# EAGLE library part OPA2227UA (library OPAX22X)
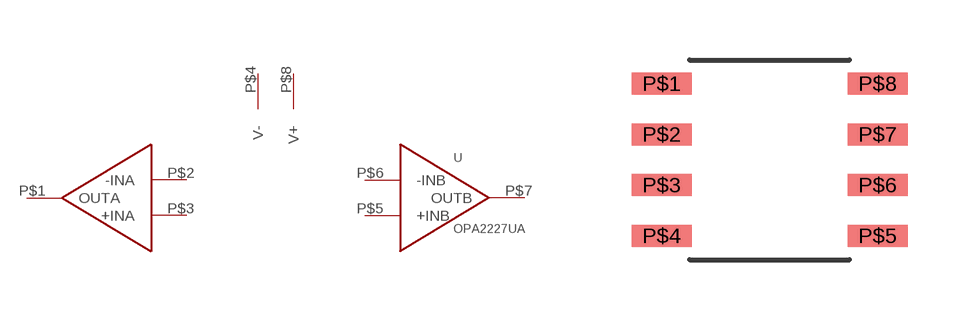
[diagram p1: symbol with the pads of SOIC-8; footprint SOIC-8]

Designator prefix -

## OPA2227UA  [SOIC-8]
P$1  OUTA  out
P$2  -INA  in
P$3  +INA  in
P$4  V-  pwr
P$5  +INB  in
P$6  -INB  in
P$7  OUTB  out
P$8  V+  pwr

## Footprint SOIC-8 (pad centres in mm)
smd 1.5 x 0.55: P$1 -2.7,1.27; P$2 -2.7,0; P$3 -2.7,-1.27; P$4 -2.7,-2.54; P$5 2.7,-2.54; P$6 2.7,-1.27; P$7 2.7,0; P$8 2.7,1.27